# EAGLE library part TLC14CD (library Neel)
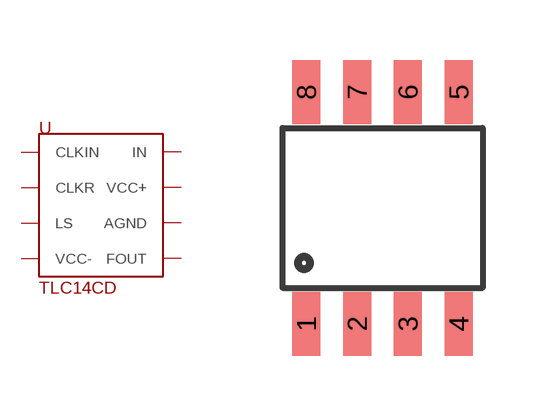
[diagram p34: symbol with the pads of SO-8; footprint SO-8]

Designator prefix -

## TLC14CD  [SO-8]
1  CLKIN
2  CLKR
3  LS
4  VCC-
5  FOUT
6  AGND
7  VCC+
8  IN

## Footprint SO-8 (pad centres in mm)
smd 0.7 x 1.6: 1 -1.905,-2.9; 2 -0.635,-2.9; 3 0.635,-2.9; 4 1.905,-2.9; 5 1.905,2.9; 6 0.635,2.9; 7 -0.635,2.9; 8 -1.905,2.9